# Altium schematic symbol library Interface_Transceiver.SchLib: 6 symbols
Pins are listed as number, name and electrical type; pins without a type are passive.

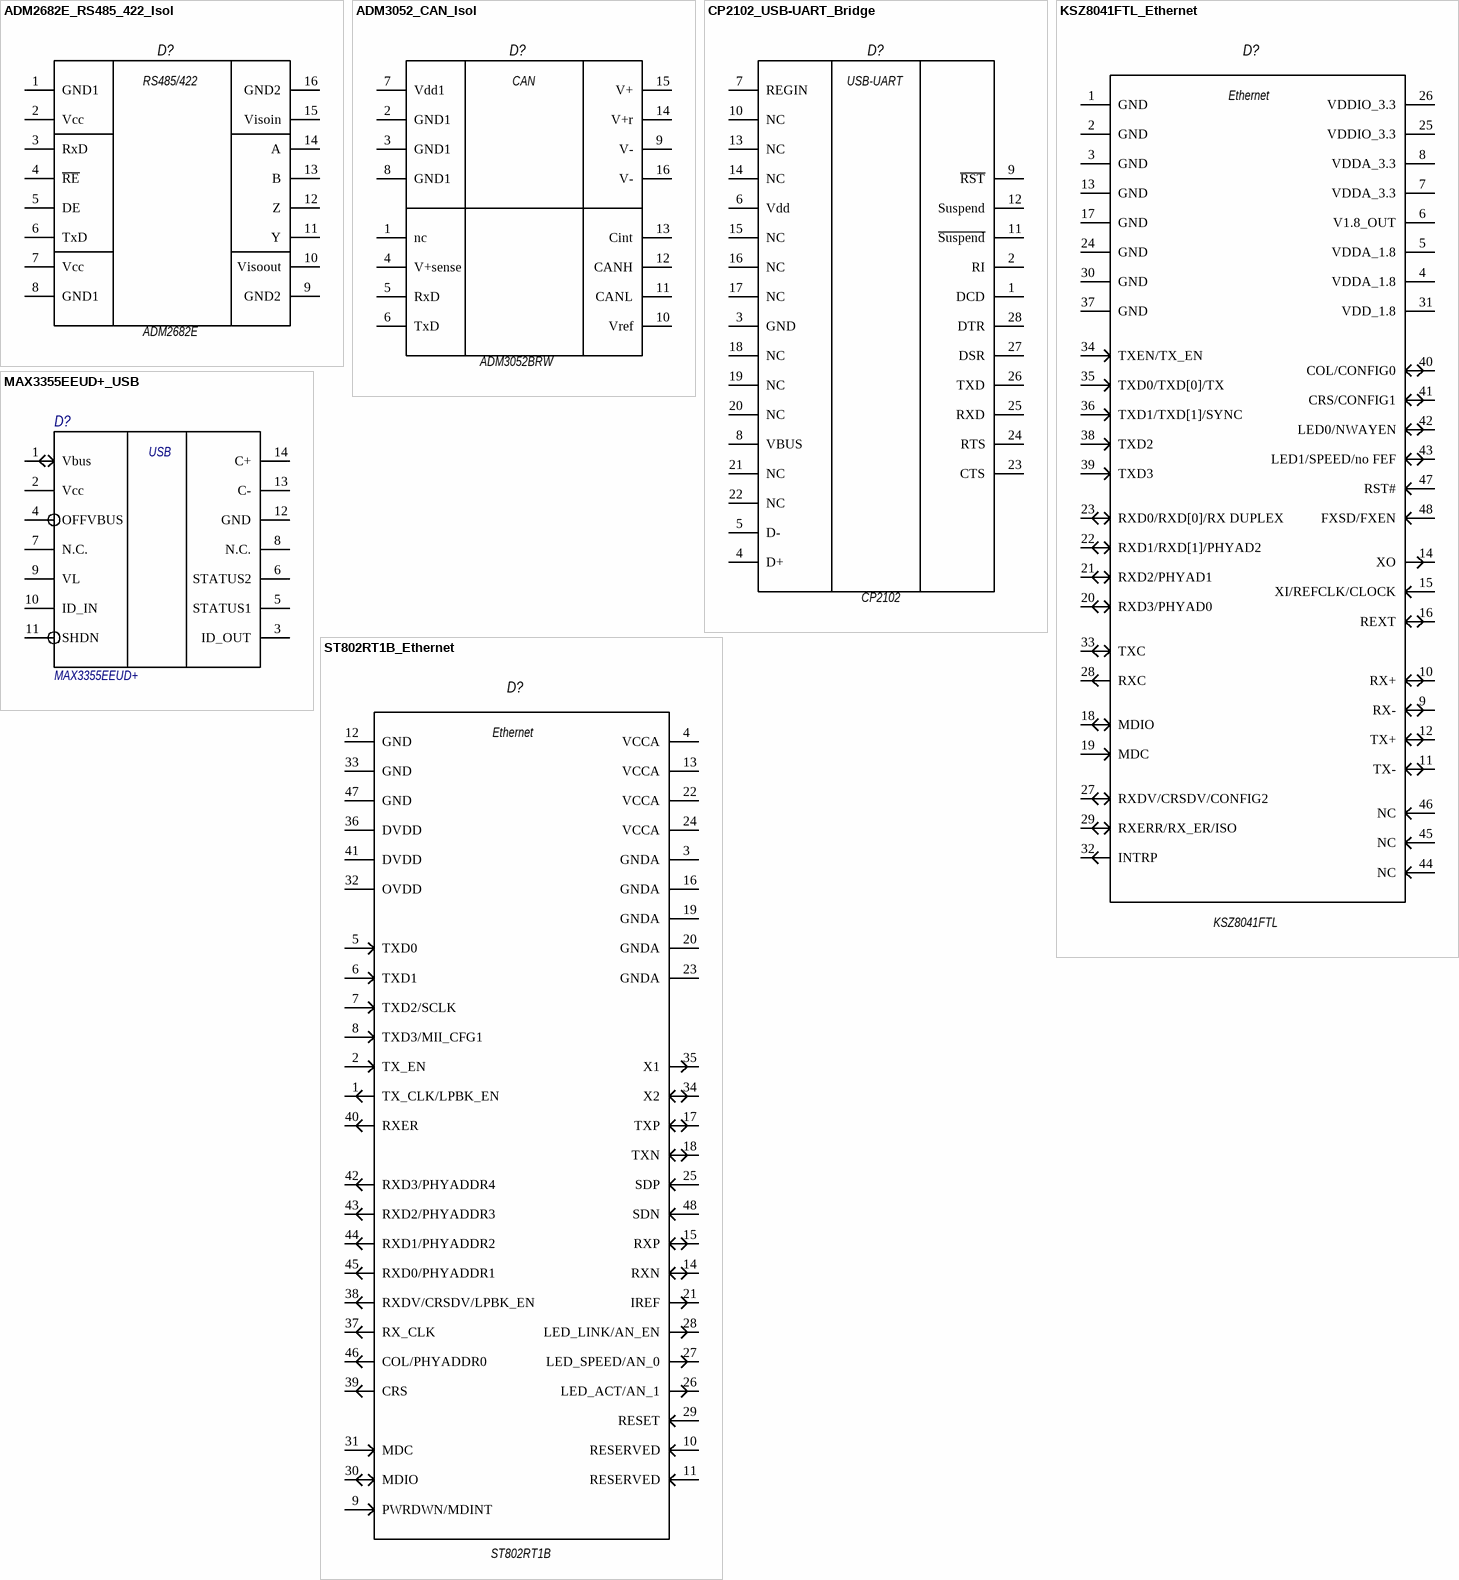
[diagram p0: symbols ADM2682E_RS485_422_Isol to ST802RT1B_Ethernet]

## ADM2682E_RS485_422_Isol
designator D?  Type: ADM2682E  (hidden comment: ADM2682E_RS485_422_Isol)
footprint SOIC_16IC (D?)
pins: 1 GND1, 2 Vcc, 3 RxD, 4 ~{RE}, 5 DE, 6 TxD, 7 Vcc, 8 GND1, 9 GND2, 10 Visoout, 11 Y, 12 Z, 13 B, 14 A, 15 Visoin, 16 GND2
text: RS485/422

## ADM3052_CAN_Isol
designator D?  Type: ADM3052BRW  (hidden comment: *)
footprint SOIC-16_W (16-Pin Small Outline Integrated Circuit 1.27 mm Pitch, IPC Medium Density)
footprint SOIC-16_W (16-Pin Small Outline Integrated Circuit 1.27 mm Pitch, IPC Medium Density)
pins: 1 nc, 2 GND1, 3 GND1, 4 V+sense, 5 RxD, 6 TxD, 7 Vdd1, 8 GND1, 9 V-, 10 Vref, 11 CANL, 12 CANH, 13 Cint, 14 V+r, 15 V+, 16 V-
text: CAN

## CP2102_USB-UART_Bridge
designator D?  (value not drawn)
footprint QFN28_5mmX5mm (QFN, 28-Leads, Body 5,00x5,00mm, Pitch 0,50mm, Thermal Pad 3,13x3,13mm, IPC Medium Density)
pins: 1 DCD, 2 RI, 3 GND, 4 D+, 5 D-, 6 Vdd, 7 REGIN, 8 VBUS, 9 ~{RST}, 10 NC, 11 ~{Suspend}, 12 Suspend, 13 NC, 14 NC, 15 NC, 16 NC, 17 NC, 18 NC, 19 NC, 20 NC, 21 NC, 22 NC, 23 CTS, 24 RTS, 25 RXD, 26 TXD, 27 DSR, 28 DTR
text: USB-UART; CP2102

## KSZ8041FTL_Ethernet
designator D?  Type: KSZ8041FTL  (hidden comment: *)
footprint LQFP48_L (Thin QFP, 48-Leads, Body 7x7mm, Pitch 0.5mm, IPC High Density)
pins: 1 GND (power), 2 GND (power), 3 GND (power), 4 VDDA_1.8 (power), 5 VDDA_1.8 (power), 6 V1.8_OUT (power), 7 VDDA_3.3 (power), 8 VDDA_3.3 (power), 9 RX-, 10 RX+, 11 TX-, 12 TX+, 13 GND (power), 14 XO, 15 XI/REFCLK/CLOCK, 16 REXT, 17 GND (power), 18 MDIO, 19 MDC, 20 RXD3/PHYAD0, 21 RXD2/PHYAD1, 22 RXD1/RXD[1]/PHYAD2, 23 RXD0/RXD[0]/RX DUPLEX, 24 GND (power), 25 VDDIO_3.3 (power), 26 VDDIO_3.3 (power), 27 RXDV/CRSDV/CONFIG2, 28 RXC, 29 RXERR/RX_ER/ISO, 30 GND (power), 31 VDD_1.8 (power), 32 INTRP, 33 TXC, 34 TXEN/TX_EN, 35 TXD0/TXD[0]/TX, 36 TXD1/TXD[1]/SYNC, 37 GND (power), 38 TXD2, 39 TXD3, 40 COL/CONFIG0, 41 CRS/CONFIG1, 42 LED0/NWAYEN, 43 LED1/SPEED/no FEF, 44 NC, 45 NC, 46 NC, 47 RST#, 48 FXSD/FXEN
text: Ethernet

## MAX3355EEUD+_USB
designator D?  Type: MAX3355EEUD+  (hidden comment: *)
footprint TSSOP14N (TSSOP, 14-Leads, Body 5,00x4,40mm, Pitch 0,65mm, IPC Medium Density)
pins: 1 Vbus, 2 Vcc, 3 ID_OUT, 4 OFFVBUS, 5 STATUS1, 6 STATUS2, 7 N.C., 8 N.C., 9 VL, 10 ID_IN, 11 SHDN, 12 GND, 13 C-, 14 C+
text: USB

## ST802RT1B_Ethernet
designator D?  Type: ST802RT1B  (hidden comment: *)
footprint LQFP48_L (Thin QFP, 48-Leads, Body 7x7mm, Pitch 0.5mm, IPC High Density)
pins: 1 TX_CLK/LPBK_EN (hiz), 2 TX_EN, 3 GNDA (power), 4 VCCA (power), 5 TXD0, 6 TXD1, 7 TXD2/SCLK, 8 TXD3/MII_CFG1, 9 PWRDWN/MDINT (hiz), 10 RESERVED, 11 RESERVED, 12 GND (power), 13 VCCA (power), 14 RXN, 15 RXP, 16 GNDA (power), 17 TXP, 18 TXN, 19 GNDA (power), 20 GNDA (power), 21 IREF, 22 VCCA (power), 23 GNDA (power), 24 VCCA (power), 25 SDP, 26 LED_ACT/AN_1, 27 LED_SPEED/AN_0, 28 LED_LINK/AN_EN, 29 RESET, 30 MDIO (hiz), 31 MDC, 32 OVDD (power), 33 GND (power), 34 X2, 35 X1, 36 DVDD (power), 37 RX_CLK, 38 RXDV/CRSDV/LPBK_EN, 39 CRS, 40 RXER, 41 DVDD (power), 42 RXD3/PHYADDR4, 43 RXD2/PHYADDR3, 44 RXD1/PHYADDR2, 45 RXD0/PHYADDR1, 46 COL/PHYADDR0, 47 GND (power), 48 SDN
text: Ethernet